# Altium footprint library QFN-28(4.0X5.0).PcbLib: 1 footprints
Each footprint in its own frame and in the unit in brackets; x right, y up, seen from the top. Pads: shape width x height; smd on the part's side, far side on the other; paste and mask are expansions set on the pad; w line width, h text height; cw(c..) or ccw(c..) is an arc to the next point about the centre after c.
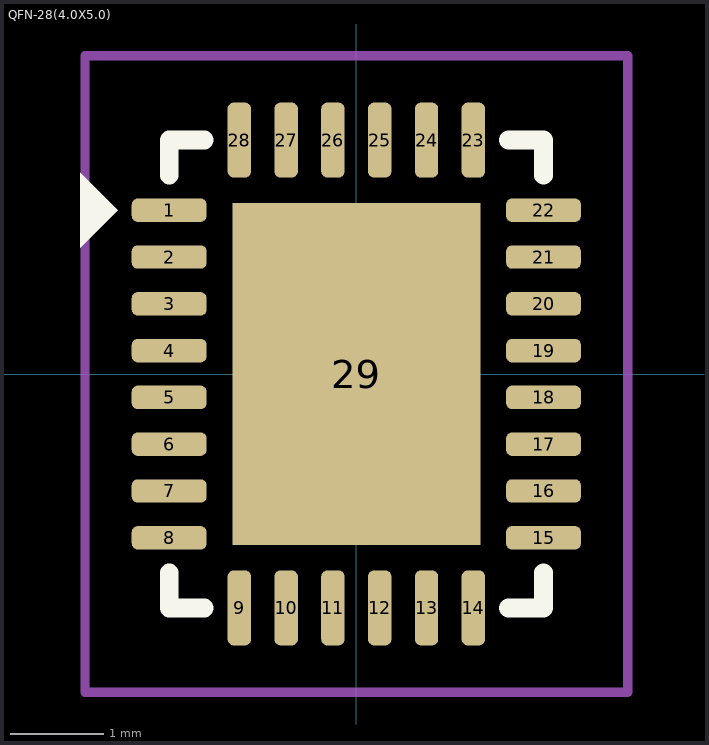
[diagram p0: the footprint, top view; thin cyan lines are the x and y axes]

## QFN-28(4.0X5.0) [mm]
pads (29):
  rrect50% 0.8x0.25 smd: 1(-2,1.75) 2(-2,1.25) 3(-2,0.75) 4(-2,0.25) 5(-2,-0.25) 6(-2,-0.75) 7(-2,-1.25) 8(-2,-1.75) 15(2,-1.75) 16(2,-1.25) 17(2,-0.75) 18(2,-0.25) 19(2,0.25) 20(2,0.75) 21(2,1.25) 22(2,1.75)
  rrect50% 0.25x0.8 smd: 9(-1.25,-2.5) 10(-0.75,-2.5) 11(-0.25,-2.5) 12(0.25,-2.5) 13(0.75,-2.5) 14(1.25,-2.5) 23(1.25,2.5) 24(0.75,2.5) 25(0.25,2.5) 26(-0.25,2.5) 27(-0.75,2.5) 28(-1.25,2.5)
  rect 2.65x3.65 smd: 29(0,0)
Top Overlay:
  region: -2.95,1.35 -2.95,2.15 -2.55,1.75
  lines w0.2: -2,-2.125 -2,-2.5 -1.625,-2.5 ; -2,2.125 -2,2.5 -1.625,2.5 ; 1.625,-2.5 2,-2.5 2,-2.125 ; 1.625,2.5 2,2.5 2,2.125
Top Courtyard:
  lines w0.1: -2.9,-3.4 -2.9,3.4 2.9,3.4 2.9,-3.4 -2.9,-3.4
3D body "LTC7891RUFDM#TRPBF.stp": height 0.8, standoff 0, extent -2.05,-2.55 2.05,2.55